# Altium schematic symbol library IIS3DWB.SchLib: 1 symbol
Pins are listed as number, name and electrical type; pins without a type are passive.

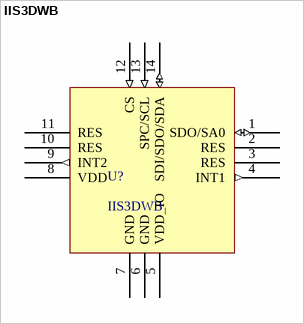
[diagram p0: symbol IIS3DWB]

## IIS3DWB
designator U?
IIS3DWB I2C Accelerometer
pins: 1 SDO/SA0 (io), 2 RES, 3 RES, 4 INT1 (out), 5 VDD_IO (power), 6 GND (power), 7 GND (power), 8 VDD (power), 9 INT2 (out), 10 RES, 11 RES, 12 CS (in), 13 SPC/SCL (in), 14 SDI/SDO/SDA (io)